# Altium footprint library PCBLIB.PcbLib: 24 footprints (part 1 of 2)
Each footprint in its own frame and in the unit in brackets; x right, y up, seen from the top. Pads: shape width x height; smd on the part's side, far side on the other; paste and mask are expansions set on the pad; w line width, h text height; cw(c..) or ccw(c..) is an arc to the next point about the centre after c.
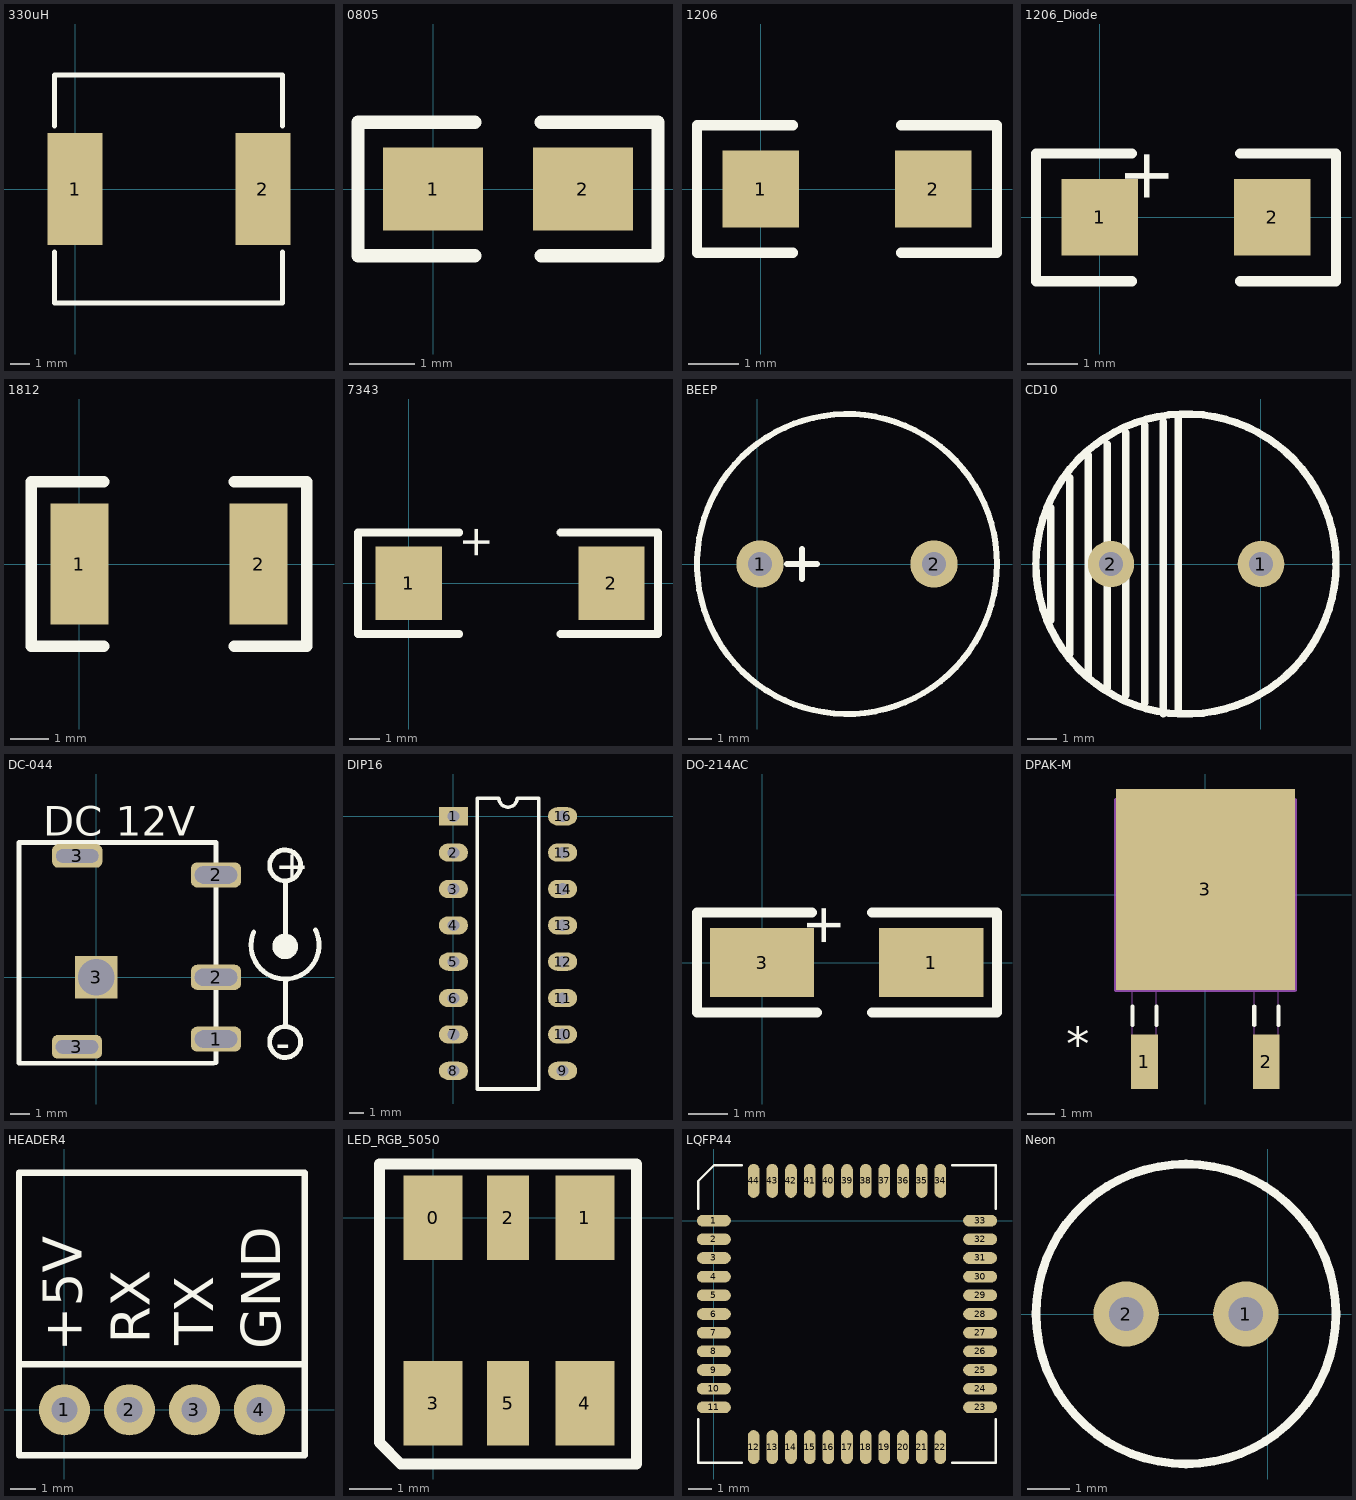
[diagram p0: the footprints below, top view; thin cyan lines are the x and y axes]

## 330uH [mm]
pads (2):
  rect 2.9x5.9 smd: 1(0,0) 2(9.9,0)
Top Overlay:
  lines w0.254: -1.078,-3.302 -1.078,-6 10.922,-6 10.922,-3.302 ; -1.078,3.302 -1.078,6 10.922,6 10.922,3.302

## 0805 [mil]
pads (2):
  rect 60x50 smd: 1(0,0) 2(90,0)
Top Overlay:
  lines w8: 25,-40 -45,-40 -45,40 25,40 ; 65,-40 135,-40 135,40 65,40

## 1206 [mil]
pads (2):
  rect 60x60 smd: 1(0,0) 2(135,0)
Top Overlay:
  lines w8: 25,-50 -50,-50 -50,50 25,50 ; 110,-50 185,-50 185,50 110,50

## 1206_Diode [mil]
pads (2):
  rect 60x60 smd: 1(0,0) 2(135,0)
Top Overlay:
  lines w8: 25,-50 -50,-50 -50,50 25,50 ; 110,-50 185,-50 185,50 110,50
  text "+" at 20,55 h39.37

## 1812 [mil]
pads (2):
  rect 60x125 smd: 1(0,0) 2(185,0)
Top Overlay:
  lines w12: 25,-85 -50,-85 -50,85 25,85 ; 160,-85 235,-85 235,85 160,85

## 7343 [mm]
pads (2):
  rect 2.16x2.41 smd: 1(0,0) 2(6.61,0)
Top Overlay:
  lines w0.254: 1.651,-1.651 -1.651,-1.651 -1.651,1.651 1.651,1.651 ; 4.953,-1.651 8.128,-1.651 8.128,1.651 4.953,1.651
  text "+" at 1.778,1.905 h1

## BEEP [mm]
pads (2):
  round 2 hole 1: 1(0.127,0) 2(7.493,0)
Top Overlay:
  circle w0.254: c3.81,0 r6.35
  lines w0.254: 1.27,0 2.54,0 ; 1.905,-0.635 1.905,0.635

## CD10 [mil]
pads (2):
  round 62 hole 31.5: 1(0,0) 2(-200,0)
Top Overlay:
  circle w10: c-100,0 r200
  lines w10: -280,-75 -280,75 ; -255,-120 -255,115 ; -230,-150 -230,145 ; -205,-165 -205,160 ; -180,-175 -180,175 ; -155,-185 -155,185 ; -130,-200 -130,190 ; -110,-200 -110,195

## DC-044 [mm]
pads (6):
  rrect50% 2.6x1.3 hole 0.9 slot 2.2 at 0 deg: 1(6.2,-3.2) 2(6.2,0) 2(6.2,5.3)
  rrect50% 2.6x1.224 hole 0.7 slot 2.2 at 0 deg: 3(-1,-3.6) 3(-0.984,6.283)
  rect 2.2x2.2 hole 1.9 square: 3(0,0)
Top Overlay:
  circle w0.254: c9.779,1.6 r0.539
  circle w0.254: c9.779,5.791 r0.8
  circle w0.254: c9.779,-3.353 r0.8
  rectangle: 9.347,1.168 10.194,2.057
  lines w0.254: -4,-4.45 -4,6.985 6.2,6.985 6.2,-4.425 ; -3.975,-4.45 6.075,-4.45 ; 8.152,2.355 ccw(c9.772,1.668) 11.354,2.438 ; 9.794,-2.511 9.794,-0.111 ; 9.794,1.944 9.794,4.969
  text "+" at 9.271,5.029 h1.52
  text "-" at 9.296,-4.166 h1.52
  text "DC 12V" at -2.743,7.341 h1.52

## DIP16 [mil]
pads (16):
  rect 80x50 hole 32: 1(0,0)
  oval 80x50 hole 32: 2(0,-100) 3(0,-200) 4(0,-300) 5(0,-400) 6(0,-500) 7(0,-600) 8(0,-700) 9(300,-700) 10(300,-600) 11(300,-500) 12(300,-400) 13(300,-300) 14(300,-200) 15(300,-100) 16(300,0)
Top Overlay:
  lines w10: 65,-750 65,50 125,50 ccw(c150,50) 175,50 235,50 235,-750 65,-750

## DO-214AC [mm]
pads (2):
  rect 2.65x1.75 smd: 1(4.3,0) 3(0,0)
Top Overlay:
  lines w0.254: 1.27,1.27 -1.651,1.27 -1.651,-1.27 1.397,-1.27 ; 2.794,-1.27 5.969,-1.27 5.969,1.27 2.794,1.27
  text "+" at 1.143,1.524 h1

## DPAK-M [mil]
height 95
pads (3):
  rect 39x79 smd: 1(-88.58,-242.5) 2(88.58,-242.5)
  rect 260x292 smd: 3(0,8)
Top Overlay:
  lines w6: -106.08,-189 -106.08,-162 ; -71.08,-189 -71.08,-162 ; 71.08,-189 71.08,-162 ; 106.08,-189 106.08,-162
  text "*" at -202.17,-242.5 h50
Mechanical 1:
  lines w0: -130,-138 -130,138 130,138 130,-138 -130,-138 ; -106.08,-260 -71.08,-260 -71.08,-138 -106.08,-138 -106.08,-260 ; 71.08,-260 106.08,-260 106.08,-138 71.08,-138 71.08,-260
  lines w6: -130,-138 -130,138 130,138 130,-138 -130,-138
  text "9" at 0,0 h50
  text "*" at -202.17,-242.5 h50

## HEADER4 [mm]
pads (4):
  round 2 hole 1: 1(0,0) 2(2.54,0) 3(5.08,0) 4(7.62,0)
Top Overlay:
  lines w0.254: -1.778,1.778 -1.778,9.271 9.398,9.271 9.398,1.778 ; -1.778,1.778 -1.778,-1.778 9.398,-1.778 9.398,1.778 ; -1.778,1.778 9.398,1.778
  text "+5V" at 0.675,2.275 h1.52
  text "GND" at 8.425,2.375 h1.52
  text "RX" at 3.325,2.575 h1.52
  text "TX" at 5.825,2.525 h1.52

## LED_RGB_5050 [mm]
pads (6):
  rect 1.4x2 smd: 0(0,0) 1(3.6,0) 3(0,-4.4) 4(3.6,-4.4)
  rect 1x2 smd: 2(1.778,0) 5(1.778,-4.4)
Top Overlay:
  lines w0.254: -1.27,-5.334 -0.762,-5.842 4.826,-5.842 4.826,1.27 -1.27,1.27 -1.27,-5.334

## LQFP44 [mm]
pads (44):
  oval 1.45x0.5 smd: 1(0,0) 2(0,-0.8) 3(0,-1.6) 4(0,-2.4) 5(0,-3.2) 6(0,-4) 7(0,-4.8) 8(0,-5.6) 9(0,-6.4) 10(0,-7.2) 11(0,-8) 23(11.4,-8) 24(11.4,-7.2) 25(11.4,-6.4) 26(11.4,-5.6) 27(11.4,-4.8) 28(11.4,-4) 29(11.4,-3.2) 30(11.4,-2.4) 31(11.4,-1.6) 32(11.4,-0.8) 33(11.4,0)
  oval 0.5x1.45 smd: 12(1.7,-9.7) 13(2.5,-9.7) 14(3.3,-9.7) 15(4.1,-9.7) 16(4.9,-9.7) 17(5.7,-9.7) 18(6.5,-9.7) 19(7.3,-9.7) 20(8.1,-9.7) 21(8.9,-9.7) 22(9.7,-9.7) 34(9.7,1.7) 35(8.9,1.7) 36(8.1,1.7) 37(7.3,1.7) 38(6.5,1.7) 39(5.7,1.7) 40(4.9,1.7) 41(4.1,1.7) 42(3.3,1.7) 43(2.5,1.7) 44(1.7,1.7)
Top Overlay:
  lines w0.1: -0.675,-8.5 -0.675,-10.375 1.2,-10.375 ; -0.675,0.5 -0.675,1.7 0,2.375 1.2,2.375 ; 10.2,-10.375 12.075,-10.375 12.075,-8.5 ; 10.2,2.375 12.075,2.375 12.075,0.5

## Neon [mil]
pads (2):
  round 60 hole 31.5: 1(-20,0) 2(-130,0)
Top Overlay:
  circle w7.87: c-75,0 r137.8